# Altium schematic symbol library Diode.SchLib: 4 symbols
Pins are listed as number, name and electrical type; pins without a type are passive.

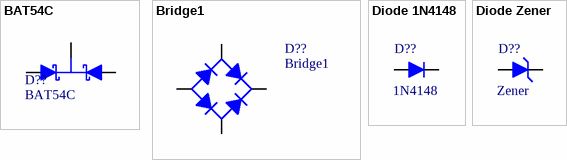
[diagram p0: symbols BAT54C to Diode Zener]

## BAT54C
designator D??
Schottky Barrier Double Diode; Published: 17-Sep-2003; LatestRevisionDate: 12-Dec-2006; LatestRevisionNote: IPC-7351 Footprint Added.; DatasheetVersion: 4-Mar-2002; PackageVersion: May-1999; PackageReference: SOT23; Publisher: Altium Limited; PackageDescription: 3-Pin SOT-23 Package 0.95 mm Pitch, 2.3 mm Lead Span; ComponentLink1Description: Manufacturer Link; ComponentLink1URL: http://www.semiconductors.philips.com/; ComponentLink2Description: Datasheet; ComponentLink2URL: http://www.semiconductors.philips.com/acrobat/datasheets/BAT54_SERIES_4.pdf
footprint SOT23_N (SOT23, 3-Leads, Body 2.9x1.3mm, Pitch 0.95mm, Lead Span 2.3mm, IPC Medium Density)
pins: 1 A1, 2 A2, 3 K

## Bridge1
designator D??
Full Wave Diode Bridge; Published: 8-Jun-2000; LatestRevisionDate: 17-Jul-2002; LatestRevisionNote: Re-released for DXP Platform.; PackageReference: D-38; Publisher: Altium Limited
simulation model BRIDGE (Spice Subcircuit)
footprint SOIC254P960X400-4N (SOT223, 4-Leads, Body 6.5x3.5mm, Pitch 2.3mm, Lead Span 7mm, IPC Low Density)
pins: 1 IN-AC1, 2 IN-AC2, 3 OUT+, 4 OUT-

## Diode 1N4148
designator D??, comment 1N4148
High Conductance Fast Diode
footprint MINIMELF (Metal Electrode Face (MELF) Diode; Body 3.5 x 1.5 mm (LxDia))
pins: 1 A, 2 K

## Diode Zener
designator D??, comment Zener
High Conductance Fast Diode
footprint MINIMELF (Metal Electrode Face (MELF) Diode; Body 3.5 x 1.5 mm (LxDia))
footprint DIODE-0.4 (Tunnel Diode - Dependent Source Model; 2 Leads)
pins: 1 A, 2 K